# Altium footprint library FootprintLib.PcbLib: 194 footprints (part 11 of 13)
Each footprint in its own frame and in the unit in brackets; x right, y up, seen from the top. Pads: shape width x height; smd on the part's side, far side on the other; paste and mask are expansions set on the pad; w line width, h text height; cw(c..) or ccw(c..) is an arc to the next point about the centre after c.
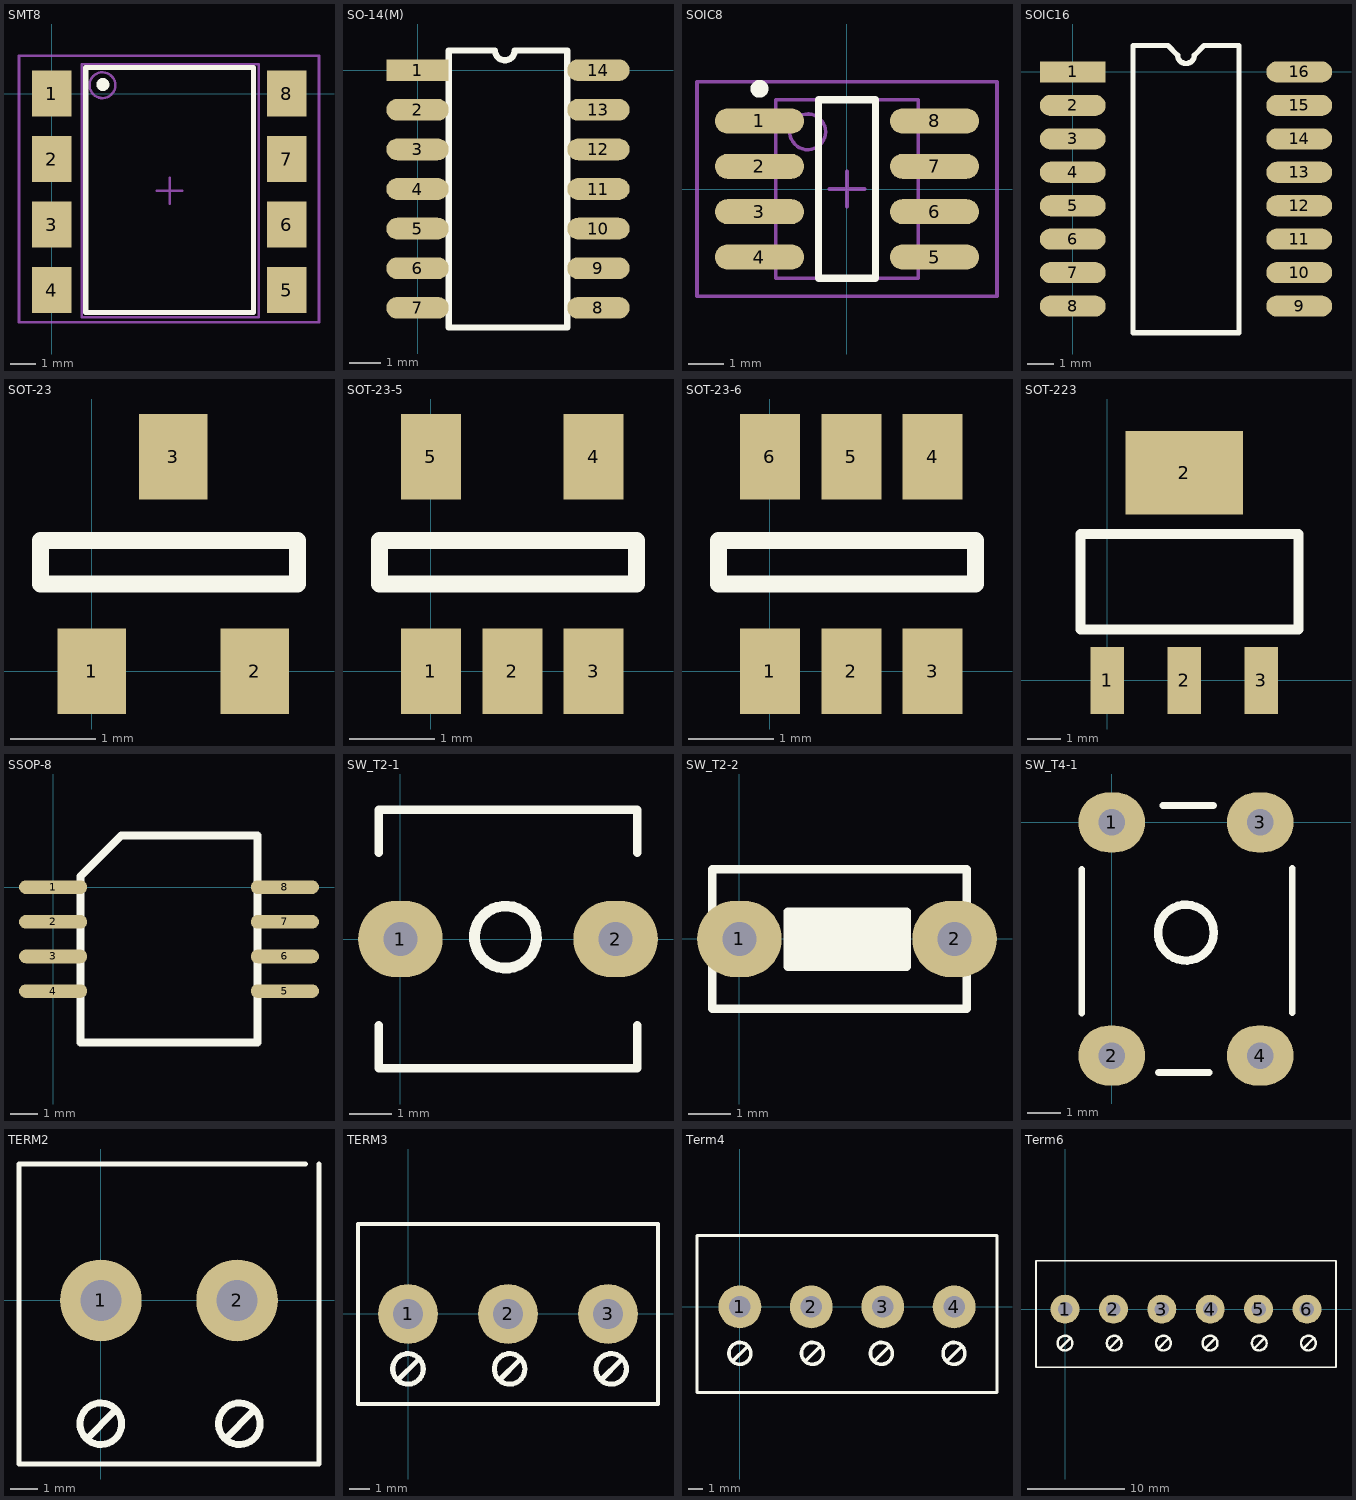
[diagram p10: the footprints below, top view; thin cyan lines are the x and y axes]

## SMT8 [mm]
height 5.08
pads (8):
  rect 1.54x1.78 smd: 1(0,0) 2(0,-2.54) 3(0,-5.08) 4(0,-7.62) 5(9.111,-7.62) 6(9.111,-5.08) 7(9.111,-2.54) 8(9.111,0)
Top Overlay:
  circle w0.25: c1.983,0.356 r0.125
  lines w0.2: 1.321,-8.484 7.823,-8.484 7.823,1.016 1.321,1.016 1.321,-8.484
Mechanical 13:
  circle w0.1: c1.964,0.33 r0.5
  lines w0.1: 1.168,-8.661 8.026,-8.661 8.026,1.143 1.168,1.143 1.168,-8.657
Mechanical 15:
  lines w0.1: 4.064,-3.759 5.064,-3.759 ; 4.572,-4.267 4.572,-3.267 ; -1.27,-8.865 10.363,-8.865 10.363,1.473 -1.27,1.473 -1.27,-8.865
3D body: height 1.75, standoff 0, extent 1.168,-8.661 8.026,1.118

## SO-14(M) [mm]
pads (14):
  rect 2x0.7 smd: 1(0,0)
  oval 2x0.7 smd: 2(0,-1.27) 3(0,-2.54) 4(0,-3.81) 5(0,-5.08) 6(0,-6.35) 7(0,-7.62) 8(5.8,-7.62) 9(5.8,-6.35) 10(5.8,-5.08) 11(5.8,-3.81) 12(5.8,-2.54) 13(5.8,-1.27) 14(5.8,0)
Top Overlay:
  lines w0.2: 1,-8.255 4.8,-8.255 4.8,0.635 3.117,0.635 cw(c2.8,0.635) 2.482,0.635 1,0.635 1,-8.255

## SOIC8 [mm]
height 2.16
pads (8):
  oval 2.5x0.7 smd: 1(-2.45,1.905) 2(-2.45,0.635) 3(-2.45,-0.635) 4(-2.45,-1.905) 5(2.45,-1.905) 6(2.45,-0.635) 7(2.45,0.635) 8(2.45,1.905)
Top Overlay:
  circle w0.25: c-2.45,2.805 r0.125
  lines w0.2: -0.8,-2.5 0.8,-2.5 0.8,2.5 -0.8,2.5 -0.8,-2.5
Mechanical 13:
  circle w0.1: c-1.1,1.6 r0.5
  lines w0.1: -2,-2.5 2,-2.5 2,2.5 -2,2.5 -2,-2.5
Mechanical 15:
  lines w0.1: -0.5,0 0.5,0 ; 0,-0.5 0,0.5 ; -4.2,-3 4.2,-3 4.2,3 -4.2,3 -4.2,-3
3D body: height 1.75, standoff 0, extent -2,-2.5 2,2.5

## SOIC16 [mm]
pads (16):
  rect 2.5x0.8 smd: 1(0,0)
  oval 2.5x0.8 smd: 2(0,-1.27) 3(0,-2.54) 4(0,-3.81) 5(0,-5.08) 6(0,-6.35) 7(0,-7.62) 8(0,-8.89) 9(8.6,-8.89) 10(8.6,-7.62) 11(8.6,-6.35) 12(8.6,-5.08) 13(8.6,-3.81) 14(8.6,-2.54) 15(8.6,-1.27) 16(8.6,0)
Top Overlay:
  lines w0.2: 2.285,-9.9 2.285,1 3.617,1 3.982,0.635 ccw(c4.3,0.635) 4.617,0.635 4.982,1 6.315,1 6.315,-9.9 2.285,-9.9

## SOT-23 [mm]
height 1.1
pads (3):
  rect 0.8x1 smd: 1(0,0) 2(1.9,0) 3(0.95,2.5)
Top Overlay:
  lines w0.2: -0.6,1.016 -0.6,1.524 2.4,1.524 2.4,1.016 -0.6,1.016

## SOT-23-5 [mm]
height 1.3
pads (5):
  rect 0.7x1 smd: 1(0,0) 2(0.95,0) 3(1.9,0) 4(1.9,2.5) 5(0,2.5)
Top Overlay:
  lines w0.2: -0.6,1.016 -0.6,1.524 2.4,1.524 2.4,1.016 -0.6,1.016

## SOT-23-6 [mm]
height 3
pads (6):
  rect 0.7x1 smd: 1(0,0) 2(0.95,0) 3(1.9,0) 4(1.9,2.5) 5(0.95,2.5) 6(0,2.5)
Top Overlay:
  lines w0.2: -0.6,1.016 2.4,1.016 2.4,1.524 -0.6,1.524 -0.6,1.016

## SOT-223 [mm]
height 1.8
pads (4):
  rect 1x2 smd: 1(0,0) 2(2.3,0) 3(4.6,0)
  rect 3.5x2.5 smd: 2(2.3,6.2)
Top Overlay:
  lines w0.3: -0.8,1.524 -0.8,4.369 5.7,4.369 5.7,1.524 -0.8,1.524

## SSOP-8 [mm]
height 4.5
pads (8):
  oval 2.5x0.5 smd: 1(0,0) 2(0,-1.27) 3(0,-2.54) 4(0,-3.81) 5(8.5,-3.81) 6(8.5,-2.54) 7(8.5,-1.27) 8(8.5,0)
Top Overlay:
  lines w0.3: 1,-5.7 1,0.4 2.5,1.9 7.5,1.9 7.5,-5.7 1,-5.7

## SW_T2-1 [mm] "square PCB monted push botton switch"
pads (2):
  oval 2x1.8 hole 0.8: 1(0,0) 2(5.08,0)
Top Overlay:
  lines w0.2: -0.508,-2.032 -0.508,-3.048 5.588,-3.048 5.588,-2.032 ; -0.508,2.032 -0.508,3.048 5.588,3.048 5.588,2.032
  lines w0.254: 1.815,-0.262 cw(c2.48,0.045) 1.825,-0.282

## SW_T2-2 [mm] "square PCB monted push botton switch"
pads (2):
  oval 2x1.8 hole 0.8: 1(0,0) 2(5.08,0)
Top Overlay:
  rectangle: 1.146,-0.652 3.946,0.648
  lines w0.2: -0.635,-1.651 -0.635,1.649 5.365,1.649 5.365,-1.651 -0.635,-1.651 ; 1.146,-0.652 1.146,0.648 3.946,0.648 3.946,-0.652 1.146,-0.652

## SW_T4-1 [mm]
pads (4):
  oval 2x1.8 hole 0.8: 1(0,0) 2(0,-6.985) 3(4.445,0) 4(4.445,-6.985)
Top Overlay:
  circle w0.254: c2.22,-3.302 r0.836
  lines w0.2: -0.9,-5.718 -0.9,-1.4 ; 1.397,-7.493 2.921,-7.493 ; 1.524,0.508 1.905,0.508 2.667,0.508 3.048,0.508 ; 5.4,-5.7 5.4,-1.382

## TERM2 [mm]
pads (2):
  round 3 hole 1.5: 1(0,0) 2(5,0)
Top Overlay:
  circle w0.254: c5.08,-4.524 r0.764
  circle w0.254: c0,-4.524 r0.764
  lines w0.2: 7.5,5 2.5,5 -3,5 -3,-6 2.5,-6 8,-6 8,5
  lines w0.254: -0.508,-5.08 0.508,-4.064 ; 4.572,-5.08 5.588,-4.064

## TERM3 [mm]
pads (3):
  round 3 hole 1.5: 1(0,0) 2(5,0) 3(10,0)
Top Overlay:
  circle w0.254: c0,-2.746 r0.764
  circle w0.254: c5.08,-2.746 r0.764
  circle w0.254: c10.16,-2.746 r0.764
  lines w0.2: -2.5,-4.5 7.5,-4.5 12.5,-4.5 12.5,-2.5 12.5,0 12.5,4.5 7.5,4.5 -2.5,4.5 -2.5,0 -2.5,-4.5
  lines w0.254: -0.508,-3.302 0.508,-2.286 ; 4.572,-3.302 5.588,-2.286 ; 9.652,-3.302 10.668,-2.286

## Term4 [mm]
pads (4):
  round 3 hole 1.5: 1(0,0) 2(5,0) 3(10,0) 4(15,0)
Top Overlay:
  circle w0.254: c0,-3.254 r0.764
  circle w0.254: c5.08,-3.254 r0.764
  circle w0.254: c9.906,-3.254 r0.764
  circle w0.254: c14.986,-3.254 r0.764
  lines w0.2: -3,-6 7.5,-6 12.5,-6 18,-6 18,5 12,5 7,5 -3,5 -3,0 -3,-6
  lines w0.254: -0.508,-3.81 0.508,-2.794 ; 4.572,-3.81 5.588,-2.794 ; 9.398,-3.81 10.414,-2.794 ; 14.478,-3.81 15.494,-2.794

## Term6 [mm]
pads (6):
  round 3 hole 1.5: 1(0,0) 2(5,0) 3(10,0) 4(15,0) 5(20,0) 6(25,0)
Top Overlay:
  circle w0.254: c0,-3.508 r0.764
  circle w0.254: c5.08,-3.508 r0.764
  circle w0.254: c10.16,-3.508 r0.764
  circle w0.254: c14.986,-3.508 r0.764
  circle w0.254: c20.066,-3.508 r0.764
  circle w0.254: c25.146,-3.508 r0.764
  lines w0.2: -3,-6 28,-6 28,5 -3,5 -3,-6
  lines w0.254: -0.508,-4.064 0.508,-3.048 ; 4.572,-4.064 5.588,-3.048 ; 9.652,-4.064 10.668,-3.048 ; 14.478,-4.064 15.494,-3.048 ; 19.558,-4.064 20.574,-3.048 ; 24.638,-4.064 25.654,-3.048